# Altium schematic symbol library HEADER_2x3_ALT.SchLib: 1 symbol
Pins are listed as number, name and electrical type; pins without a type are passive.

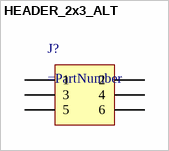
[diagram p0: symbol HEADER_2x3_ALT]

## HEADER_2x3_ALT
designator J?
pins: 1, 2, 3, 4, 5, 6